# Altium footprint library 1C20C0G220J050B.PcbLib: 1 footprints
Each footprint in its own frame and in the unit in brackets; x right, y up, seen from the top. Pads: shape width x height; smd on the part's side, far side on the other; paste and mask are expansions set on the pad; w line width, h text height; cw(c..) or ccw(c..) is an arc to the next point about the centre after c.
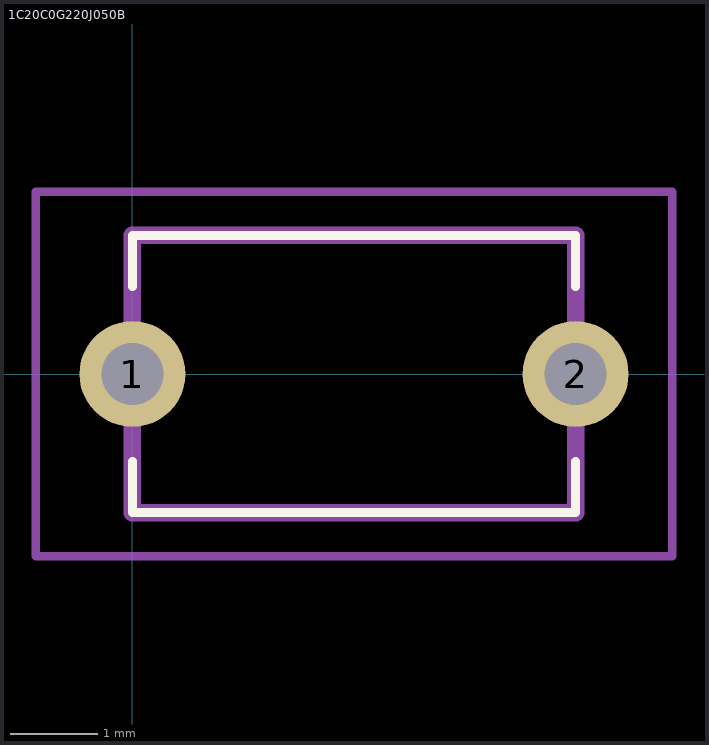
[diagram p0: the footprint, top view; thin cyan lines are the x and y axes]

## 1C20C0G220J050B [mil]
pads (2):
  round 47.8 hole 27.87: 1(0,0) 2(200,0)
Top Overlay:
  lines w3.94: 0,-39.37 0,-62.52 200,-62.52 200,-39.37 ; 0,39.37 0,62.52 200,62.52 200,39.37
Mechanical 15:
  lines w7.87: 0,-62.52 200,-62.52 200,62.52 0,62.52 0,-62.52
Mechanical 20:
  lines w3.94: -43.58,-82.2 243.58,-82.2 243.58,82.2 -43.58,82.2 -43.58,-82.2
3D body "1C20C0G220J050B.stp": height 228.35, standoff -183.07, extent -393.7,-132.9 393.7,132.9